# Altium footprint library Semiconductors.PcbLib: 4 footprints
Each footprint in its own frame and in the unit in brackets; x right, y up, seen from the top. Pads: shape width x height; smd on the part's side, far side on the other; paste and mask are expansions set on the pad; w line width, h text height; cw(c..) or ccw(c..) is an arc to the next point about the centre after c.
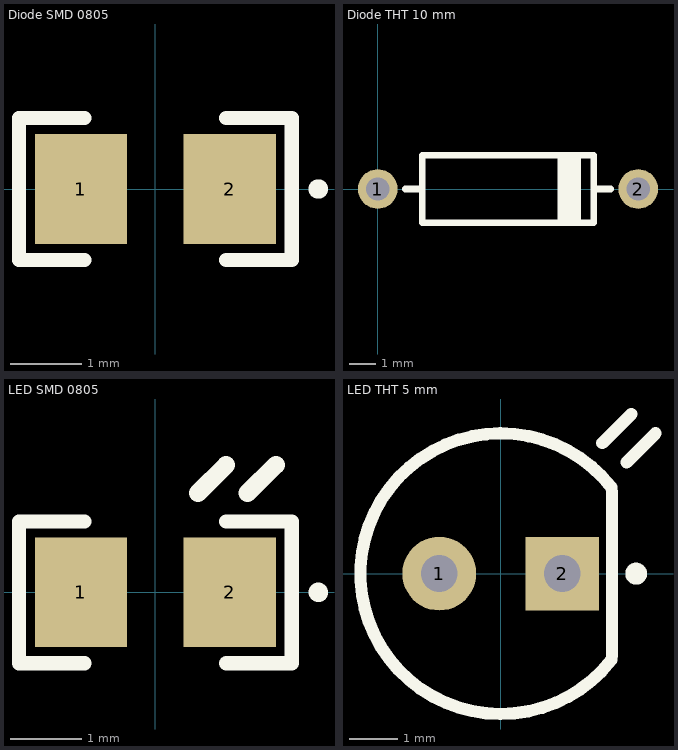
[diagram p0: the footprints below, top view; thin cyan lines are the x and y axes]

## Diode SMD 0805 [mm] "SMD diode 0805 package"
height 0.7
pads (2):
  rect 1.3x1.55 smd: 1(-1.05,0) 2(1.05,0)
Top Overlay:
  circle w0.254: c2.3,0 r0.01
  lines w0.2: -1,-1 -1.7,-1 -1.925,-1 -1.925,1 -1.7,1 -1,1 ; 1,-1 1.7,-1 1.925,-1 1.925,1 1.7,1 1,1
3D body "microMELF-RED.stp": height 1.2, standoff 0, extent -0.95,-0.596 1.05,0.596

## Diode THT 10 mm [mil] "THT axial diode 10 mm pitch"
pads (2):
  round 60 hole 35.43: 1(0,0) 2(393.7,0)
Top Overlay:
  rectangle: 271.65,-51.18 307.09,51.18
  lines w10: 41.37,0 66.93,0 ; 326.77,0 352.33,0 ; 66.93,-51.18 66.93,51.18 326.77,51.18 326.77,-51.18 66.93,-51.18
3D body "DO-41-glass_horizontal_pitch_10.16.step": height 107.09, standoff -123.62, extent -20.75,-53.15 410.75,53.15

## LED SMD 0805 [mm] "SMD LED diode 0805 package"
height 0.7
pads (2):
  rect 1.3x1.55 smd: 1(-1.05,0) 2(1.05,0)
Top Overlay:
  circle w0.254: c2.3,0 r0.01
  lines w0.2: -1,-1 -1.7,-1 -1.925,-1 -1.925,1 -1.7,1 -1,1 ; 1,-1 1.7,-1 1.925,-1 1.925,1 1.7,1 1,1
  lines w0.254: 0.6,1.4 1,1.8 ; 1.3,1.4 1.7,1.8
3D body "LED-0805-glass.step": height 0.8, standoff -0.01, extent -1,-0.625 1,0.625

## LED THT 5 mm [mil] "THT LED diode 5 mm diameter"
pads (2):
  round 60 hole 30: 1(-50,0)
  rect 60x60 hole 30: 2(50,0)
Top Overlay:
  circle w10: c110.24,0 r3.94
  lines w10: 89.97,-70.29 cw(c0,0) 89.97,70.29 ; 90.55,-66.93 90.55,66.93 ; 102.36,90.55 125.98,114.17 ; 106.3,129.92 82.68,106.3 ; 82.68,106.3 82.68,106.3
3D body "LED_D5.0mm_RED.step": height 342.52, standoff -236.22, extent -116.14,-115.87 96.46,115.87